# Altium footprint library Transistor.PcbLib: 24 footprints (part 1 of 2)
Each footprint in its own frame and in the unit in brackets; x right, y up, seen from the top. Pads: shape width x height; smd on the part's side, far side on the other; paste and mask are expansions set on the pad; w line width, h text height; cw(c..) or ccw(c..) is an arc to the next point about the centre after c.
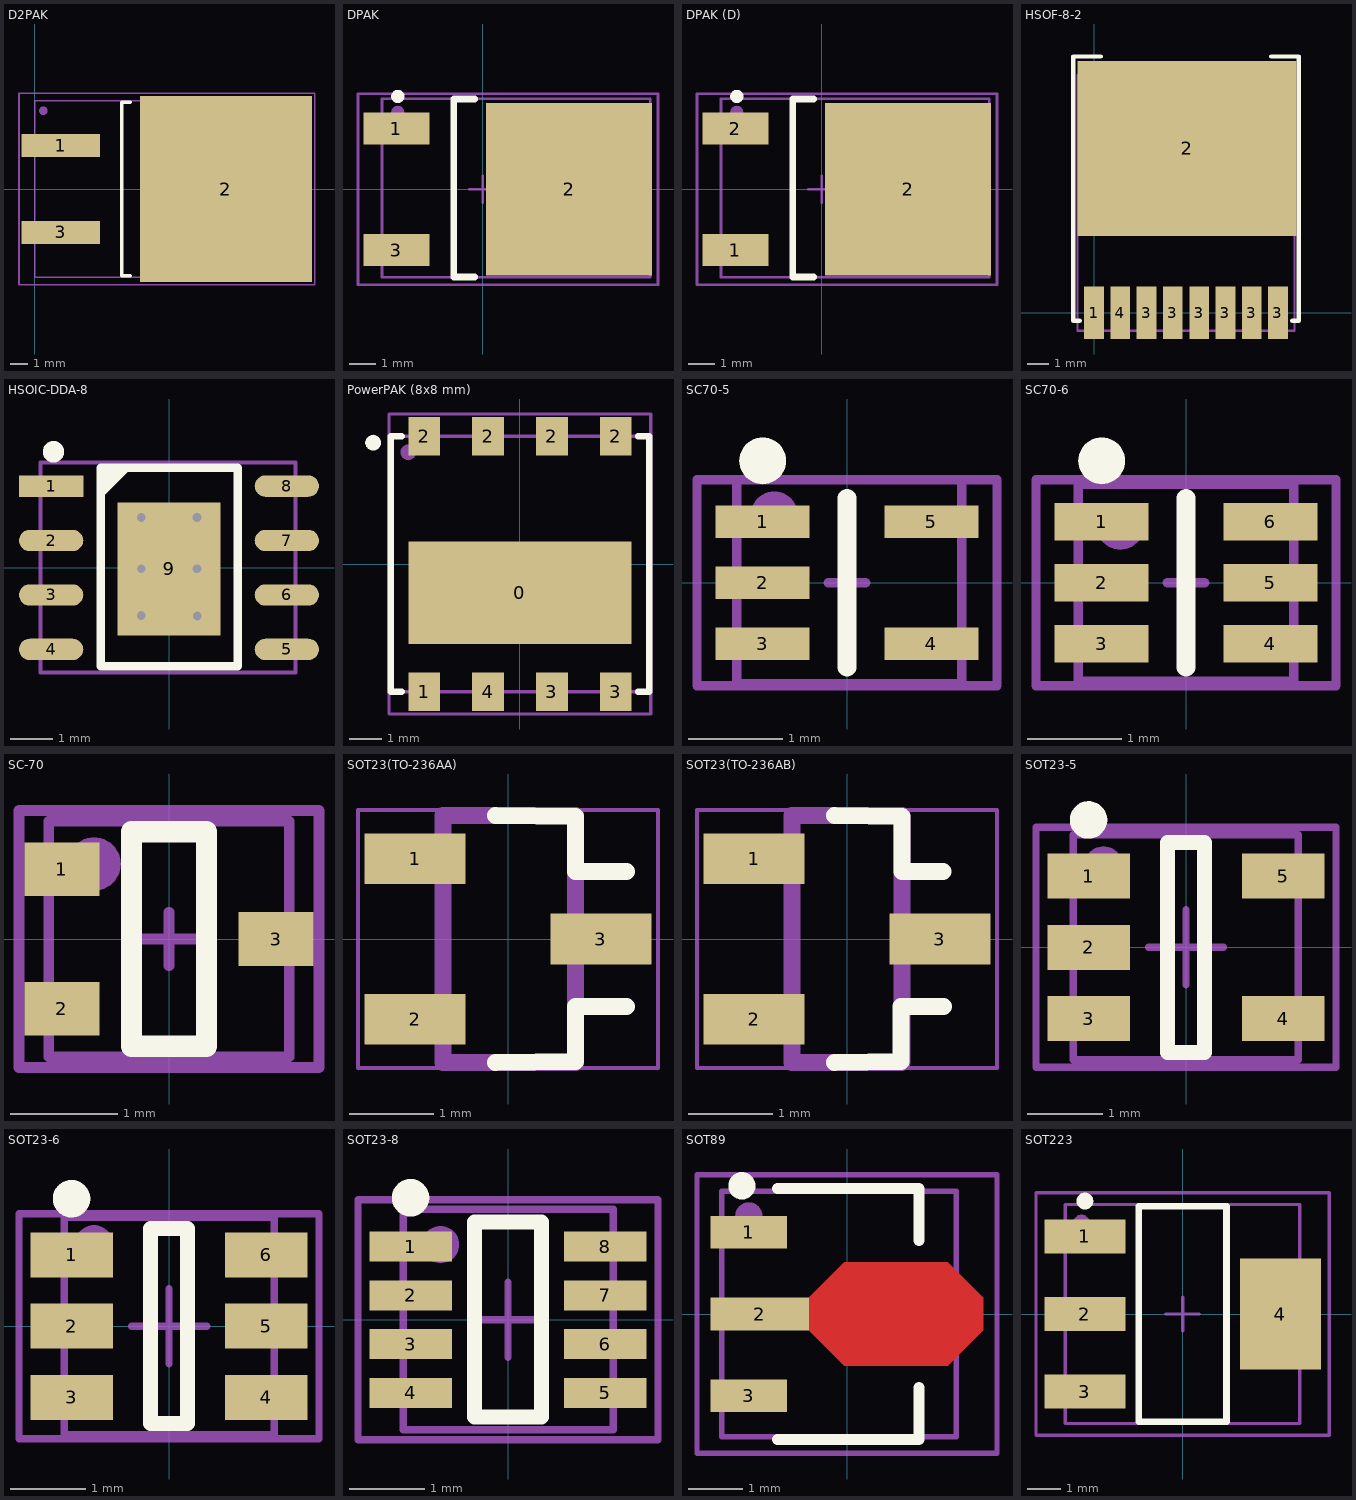
[diagram p0: the footprints below, top view; thin cyan lines are the x and y axes]

## D2PAK [mm]
height 2.38
pads (4):
  rect 4.5x1.3 smd: 1(1.5,2.5) 3(1.5,-2.5)
  rect 9.9x10.7 smd: 2(11,0)
  round 0.5 on Mech1: ""(0.5,4.5)
Top Overlay:
  lines w0.2: 5.5,-5 5,-5 5,5 5.5,5
Top Assembly:
  lines w0.1: 0,-5.08 0,5.08 15.264,5.08 15.264,-5.08 0,-5.08
Size Area:
  lines w0.1: -0.9,-5.5 -0.9,5.5 16.1,5.5 16.1,-5.5 -0.9,-5.5
3D body "User Library-DPAK.STEP": height 4.88, standoff -0.13, extent 0,-5.08 15.264,5.08

## DPAK [mm]
height 2.4
pads (4):
  rect 2.5x1.2 smd: 1(-3.25,2.29) 3(-3.25,-2.29)
  rect 6.25x6.5 smd: 2(3.25,0)
  round 0.5 on Mech1: ""(-3.2,2.9)
Top Overlay:
  circle w0.25: c-3.2,3.5 r0.125
  lines w0.25: -0.3,-3.3 -1.1,-3.3 -1.1,3.4 -0.3,3.4
Top Assembly:
  lines w0.1: -3.798,-3.317 -3.798,3.417 6.302,3.417 ; -3.798,-3.317 -3.798,-3.317 ; -3.798,-3.317 6.302,-3.317 6.302,3.417 ; 6.302,3.417 6.302,3.417
Size Area:
  lines w0.1: -0.5,0 0.5,0 ; 0,-0.5 0,0.5 ; -4.7,-3.6 6.6,-3.6 6.6,3.6 -4.7,3.6 -4.7,-3.6
3D body "User Library-DPAK_TO-252AA.STEP": height 2.37, standoff -0.03, extent -3.798,-3.317 6.302,3.417

## DPAK (D) [mm]
height 2.4
pads (4):
  rect 2.5x1.2 smd: 1(-3.25,-2.29) 2(-3.25,2.29)
  rect 6.25x6.5 smd: 2(3.25,0)
  round 0.5 on Mech1: ""(-3.2,2.9)
Top Overlay:
  circle w0.25: c-3.2,3.5 r0.125
  lines w0.25: -0.3,-3.3 -1.1,-3.3 -1.1,3.4 -0.3,3.4
Top Assembly:
  lines w0.1: -3.798,-3.317 -3.798,3.417 6.302,3.417 ; -3.798,-3.317 -3.798,-3.317 ; -3.798,-3.317 6.302,-3.317 6.302,3.417 ; 6.302,3.417 6.302,3.417
Size Area:
  lines w0.1: -0.5,0 0.5,0 ; 0,-0.5 0,0.5 ; -4.7,-3.6 6.6,-3.6 6.6,3.6 -4.7,3.6 -4.7,-3.6
3D body "User Library-DPAK_TO-252AA.STEP": height 2.37, standoff -0.03, extent -3.798,-3.317 6.302,3.417

## HSOF-8-2 [mm] "8-HSOF"
pads (9):
  rect 0.9x2.4 smd: 1(0,0) 3(2.4,0) 3(3.6,0) 3(4.8,0) 3(6,0) 3(7.2,0) 3(8.4,0) 4(1.2,0)
  rect 10x8 smd: 2(4.25,7.5)
Top Overlay:
  lines w0.2: -0.65,-0.375 -0.95,-0.375 -0.95,11.7 0.3,11.7 ; 8.1,11.7 9.35,11.7 9.35,-0.375 9.05,-0.375
Top Assembly:
  lines w0.1: -0.75,-0.828 -0.75,10.847 9.15,10.847 9.15,-0.828 -0.75,-0.828
3D body "User Library-PG-HSOF-8-1.STEP": height 2.3, standoff 0, extent -0.75,-0.828 9.15,10.847

## HSOIC-DDA-8 [mm]
pads (15):
  rect 1.5x0.5 smd: 1(-2.75,1.905)
  oval 1.5x0.5 smd: 2(-2.75,0.635) 3(-2.75,-0.635) 4(-2.75,-1.905) 5(2.75,-1.905) 6(2.75,-0.635) 7(2.75,0.635) 8(2.75,1.905)
  rect 2.4x3.1 smd: 9(0.004,-0.026)
  round 0.5 hole 0.203 mask+0.051: ""(-0.646,-1.114) ""(-0.646,-0.026) ""(-0.646,1.174) ""(0.654,-0.026) ""(0.654,1.174) ""(0.658,-1.126)
Top Overlay:
  circle w0.25: c-2.695,2.705 r0.125
  region: -1.595,2.33 -1.595,1.61 -0.875,2.33
  lines w0.2: -1.595,-2.295 1.605,-2.295 1.605,2.33 -1.595,2.33 -1.595,-2.295
Top Assembly:
  lines w0.1: 2.95,2.455 -3,2.455 -3,-2.445 2.95,-2.445 2.95,2.455 ; 2.95,2.455 2.95,2.455
3D body "DDA0008E.stp": height 1.57, standoff 0, extent -3,-2.445 3,2.455

## PowerPAK (8x8 mm) [mm]
pads (11):
  rect 7x3.2 smd mask+0.075: 0(0,-0.9)
  rect 1x1.2 smd mask+0.075: 1(-3,-4) 2(-3,4) 2(-1,4) 2(1,4) 2(3,4) 3(1,-4) 3(3,-4) 4(-1,-4)
  round 0.5 on Top Overlay mask+0.075: ""(-4.6,3.8)
  round 0.5 on Mech1 mask+0.075: ""(-3.5,3.5)
Top Overlay:
  lines w0.2: -3.7,-4 -4.05,-4 -4.05,4 -3.7,4 ; 3.7,-4 4.05,-4 4.05,4 3.7,4
Top Assembly:
  lines w0.1: -4,-4 -4,4 4,4 4,-4 -4,-4
Size Area:
  lines w0.1: -0.5,0 0.5,0 ; 0,-0.5 0,0.5 ; -4.1,-4.7 4.1,-4.7 4.1,4.7 -4.1,4.7 -4.1,-4.7
3D body "User Library-PowerPAK_8x8.STEP": height 1, standoff 0, extent -4,-4 4,4

## SC70-5 [mm] "pitch 0.95 mm"
height 1.45
pads (7):
  rect 1x0.35 smd: 1(-0.9,0.65) 2(-0.9,0) 3(-0.9,-0.65) 4(0.9,-0.65) 5(0.9,0.65)
  round 0.5 on Top Overlay: ""(-0.9,1.3)
  round 0.5 on Mech1: ""(-0.775,0.725)
Top Overlay:
  lines w0.2: 0,-0.9 0,0.9
Top Assembly:
  lines w0.1: -1.175,-1.075 1.225,-1.075 1.225,1.1 -1.175,1.1 -1.175,-1.075
Size Area:
  lines w0.1: -0.2,0 0.2,0 ; 0,-0.2 0,0.2 ; -1.6,-1.1 -1.6,1.1 1.6,1.1 1.6,-1.1 -1.6,-1.1
3D body "User Library-SC70-5-MAX.STEP": height 1.09, standoff -0.01, extent -1.175,-1.1 1.225,1.1

## SC70-6 [mm] "SOT23, 5-Leads, Body 2,90x2,80mm, Pitch 0,95mm, IPC Medium Density"
height 1.45
pads (8):
  rect 1x0.4 smd: 1(-0.9,0.65) 2(-0.9,0) 3(-0.9,-0.65) 4(0.9,-0.65) 5(0.9,0) 6(0.9,0.65)
  round 0.5 on Top Overlay: ""(-0.9,1.3)
  round 0.5 on Mech1: ""(-0.7,0.6)
Top Overlay:
  lines w0.2: 0,-0.9 0,0.9
Top Assembly:
  lines w0.1: -1.15,-1.05 -1.15,1.05 1.15,1.05 1.15,-1.05 -1.15,-1.05
Size Area:
  lines w0.1: -0.2,0 0.2,0 ; 0,-0.2 0,0.2 ; -1.6,-1.1 1.6,-1.1 1.6,1.1 -1.6,1.1 -1.6,-1.1
3D body "User Library-sot363.STEP": height 1, standoff 0, extent -1.15,-1.05 1.15,1.05

## SC-70 [mm]
pads (4):
  rect 0.7x0.5 smd: 1(-1,0.65) 2(-1,-0.65) 3(1,0)
  round 0.5 on Mech1: ""(-0.7,0.7)
Top Overlay:
  lines w0.2: -0.35,-1 0.35,-1 0.35,1 -0.35,1 -0.35,-1
Top Assembly:
  lines w0.1: -1.123,-1.1 1.123,-1.1 1.123,1.1 -1.123,1.1 -1.123,-1.1
Size Area:
  lines w0.1: -0.25,0 0.25,0 ; 0,-0.25 0,0.25 ; -1.4,-1.2 -1.4,1.2 1.4,1.2 1.4,-1.2 -1.4,-1.2
3D body "User Library-SOT323 (SC70-3)-1.STEP": height 1.1, standoff 0, extent -1.123,-1.1 1.123,1.1

## SOT23(TO-236AA) [mm]
pads (3):
  rect 1.2x0.6 smd: 1(-1.1,0.95) 2(-1.1,-0.95) 3(1.1,0)
Top Overlay:
  lines w0.2: -0.15,-1.46 0.8,-1.448 0.8,-0.8 1.4,-0.8 ; -0.15,1.46 0.8,1.448 0.8,0.8 1.4,0.8
Top Assembly:
  lines w0.2: -0.774,-1.124 -1.408,-1.124 -1.408,-0.785 -0.768,-0.785 ; -0.774,1.115 -1.408,1.115 -1.408,0.776 -0.771,0.776 ; 0.81,-0.173 1.394,-0.173 1.394,0.179 0.81,0.179 ; -0.771,-1.46 -0.771,1.46 0.8,1.46 0.8,-1.46 -0.771,-1.46
  text "'.Designator'" at -0.15,0.8 h1
Size Area:
  lines w0.05: -1.775,-1.525 -1.775,1.525 1.775,1.525 1.775,-1.525 -1.775,-1.525
3D body "SOT23(TO-236AA).step": height 1.3, standoff 0, extent -1.5,-1.5 1.5,1.5

## SOT23(TO-236AB) [mm]
pads (3):
  rect 1.2x0.6 smd: 1(-1.1,0.95) 2(-1.1,-0.95) 3(1.1,0)
Top Overlay:
  lines w0.2: -0.15,-1.46 0.64,-1.45 0.64,-0.8 1.143,-0.8 ; -0.15,1.46 0.65,1.45 0.65,0.8 1.139,0.8
Top Assembly:
  lines w0.2: -0.65,-1.124 -1.146,-1.124 -1.146,-0.785 -0.65,-0.785 ; -0.65,0.776 -1.146,0.776 -1.146,1.115 -0.65,1.115 ; 0.65,0.179 1.148,0.179 1.148,-0.173 0.651,-0.173 ; -0.65,-1.46 -0.65,1.46 0.65,1.46 0.65,-1.46 -0.65,-1.46
  text "'.Designator'" at -0.275,0.85 h1
Size Area:
  lines w0.05: -1.775,-1.525 -1.775,1.525 1.775,1.525 1.775,-1.525 -1.775,-1.525
3D body "SOT23(TO-236AB).step": height 1.09, standoff 0, extent -1.25,-1.5 1.25,1.5

## SOT23-5 [mm] "pitch 0.95 mm"
height 1.45
pads (6):
  rect 1.1x0.6 smd: 1(-1.3,0.95) 2(-1.3,0) 3(-1.3,-0.95) 4(1.3,-0.95) 5(1.3,0.95)
  round 0.5 on Mech1: ""(-1.1,1.1)
Top Overlay:
  circle w0.25: c-1.3,1.7 r0.125
  lines w0.2: -0.25,-1.4 0.25,-1.4 0.25,1.4 -0.25,1.4 -0.25,-1.4
Top Assembly:
  lines w0.1: -1.5,-1.5 -1.5,1.5 1.5,1.5 1.5,-1.5 -1.5,-1.5
Size Area:
  lines w0.1: -0.5,0 0.5,0 ; 0,-0.5 0,0.5 ; -2,-1.6 -2,1.6 2,1.6 2,-1.6 -2,-1.6
3D body "SOT23-5-1.step": height 1.3, standoff 0, extent -1.5,-1.5 1.5,1.5

## SOT23-6 [mm] "pitch 0.95 mm"
height 1.1
pads (7):
  rect 1.1x0.6 smd: 1(-1.3,0.95) 2(-1.3,0) 3(-1.3,-0.95) 4(1.3,-0.95) 5(1.3,0) 6(1.3,0.95)
  round 0.5 on Mech1: ""(-1,1.1)
Top Overlay:
  circle w0.25: c-1.3,1.7 r0.125
  lines w0.2: -0.25,-1.3 0.25,-1.3 0.25,1.3 -0.25,1.3 -0.25,-1.3
Top Assembly:
  lines w0.1: -1.4,-1.45 -1.4,1.45 1.4,1.45 1.4,-1.45 -1.4,-1.45
Size Area:
  lines w0.1: -0.5,0 0.5,0 ; 0,-0.5 0,0.5 ; -2,-1.5 -2,1.5 2,1.5 2,-1.5 -2,-1.5
3D body "User Library-SOT23-6-2.STEP": height 1.45, standoff 0, extent -1.4,-1.45 1.4,1.45

## SOT23-8 [mm] "pitch 0.95 mm"
height 1.45
pads (9):
  rect 1.1x0.4 smd: 1(-1.3,0.975) 2(-1.3,0.325) 3(-1.3,-0.325) 4(-1.3,-0.975) 5(1.3,-0.975) 6(1.3,-0.325) 7(1.3,0.325) 8(1.3,0.975)
  round 0.5 on Mech1: ""(-0.9,1)
Top Overlay:
  circle w0.25: c-1.3,1.625 r0.125
  lines w0.2: -0.45,-1.3 -0.45,1.3 0.45,1.3 0.45,-1.3 -0.45,-1.3
Top Assembly:
  lines w0.1: -1.4,-1.47 -1.4,1.47 1.4,1.47 1.4,-1.47 -1.4,-1.47
Size Area:
  lines w0.1: -0.5,0 0.5,0 ; 0,-0.5 0,0.5 ; -2,-1.6 -2,1.6 2,1.6 2,-1.6 -2,-1.6
3D body "User Library-sot238.STEP": height 1.2, standoff 0, extent -1.4,-1.495 1.4,1.445

## SOT89 [mm]
height 1.6
pads (4):
  rect 1.4x0.6 smd: 1(-1.8,1.5) 3(-1.8,-1.5)
  rect 1.8x0.6 smd: 2(-1.6,0)
  round 0.5 on Mech1: ""(-1.8,1.8)
Top Layer:
  region: -0.7,0.3 -0.05,0.95 1.85,0.95 2.5,0.3 2.5,-0.3 1.85,-0.95 -0.05,-0.95 -0.7,-0.3
Top Overlay:
  circle w0.25: c-1.927,2.35 r0.125
  lines w0.2: -1.278,-2.3 1.322,-2.3 1.322,-1.35 ; -1.278,2.3 1.322,2.3 1.322,1.35
Top Assembly:
  lines w0.1: -2.3,-2.25 -2.3,2.25 2,2.25 2,-2.25 -2.3,-2.25
Size Area:
  lines w0.1: -0.477,0 0.523,0 ; 0.022,-0.5 0.022,0.5 ; -2.75,-2.55 2.75,-2.55 2.75,2.55 -2.75,2.55 -2.75,-2.55
3D body "SOT-89.step": height 1.51, standoff 0, extent -2.3,-2.25 2,2.25

## SOT223 [mm] "SOT223, 4-Leads, Body 6,50x7,00mm (avg), Pitch 2,30mm, IPC Medium Density"
height 1.8
pads (5):
  rect 2.4x1 smd: 1(-2.9,2.3) 2(-2.9,0) 3(-2.9,-2.3)
  rect 2.4x3.3 smd: 4(2.9,0)
  round 0.5 on Mech1: ""(-3,2.7)
Top Overlay:
  circle w0.25: c-2.9,3.35 r0.125
  lines w0.2: -1.3,-3.2 1.3,-3.2 1.3,3.2 -1.3,3.2 -1.3,-3.2
Top Assembly:
  lines w0.1: -3.48,-3.25 -3.48,3.25 3.48,3.25 3.48,-3.25 -3.48,-3.25
Size Area:
  lines w0.1: -0.5,0 0.5,0 ; 0,-0.5 0,0.5 ; -4.35,-3.6 4.35,-3.6 4.35,3.6 -4.35,3.6 -4.35,-3.6
3D body "SOT-223-3.step": height 1.65, standoff -0.03, extent -3.48,-3.25 3.48,3.25